# Altium schematic symbol library mic_usb_assy FPC.SCHLIB: 3 symbols
Pins are listed as number, name and electrical type; pins without a type are passive.

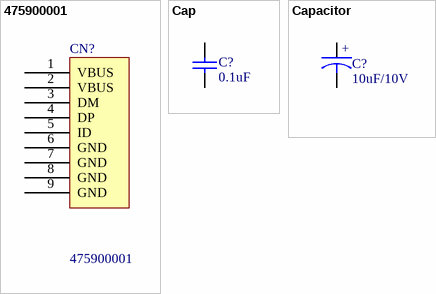
[diagram p0: symbols 475900001 to Capacitor]

## 475900001
designator CN?
Manuf_1: MOLEX; Ordered by: Subcon; Silkscreen: USB USER; Manuf_Part_1: 475900001
footprint Micro-USB-MOLEX (厂家：Molex，型号：1050170002)
footprint MOLEX_47590001 (Footprint not found)
footprint Micro-USB-MOLEX1 (厂家：Molex，型号：1050170001)
footprint Micro-USB-MOLEX (厂家：Molex，型号：1050170002)
pins: 1 VBUS, 2 VBUS, 3 DM, 4 DP, 5 ID, 6 GND, 7 GND, 8 GND, 9 GND

## Cap
designator C?, comment 0.1uF
Published: 8-Jun-2000; Revision: July-2002: Re-released for DXP Platform.; Publisher: Altium Limited
simulation model CAP (Semiconductor Capacitor)
signal-integrity model Cap Semi
footprint CR0805
footprint CR1206
footprint CAP900
footprint CAP1500
footprint CY2
footprint CY3
footprint CAP400
footprint 106K250
footprint CAP1500 - (42x14)
footprint B32676
footprint B32774
footprint CR0603
footprint SM/C_1812
footprint Model Name (Footprint not found)
footprint SM/C_1210
footprint CYLND
footprint 0603C
footprint 0402C
footprint 0603C
footprint 0402C
pins: 1, 2

## Capacitor
designator C?, comment 10uF/10V
footprint 0603C
footprint 3216
footprint 6032-1
footprint 3216
pins: 1, 2
text: +